# Altium footprint library 下板20130801.PcbLib: 47 footprints (part 2 of 3)
Each footprint in its own frame and in the unit in brackets; x right, y up, seen from the top. Pads: shape width x height; smd on the part's side, far side on the other; paste and mask are expansions set on the pad; w line width, h text height; cw(c..) or ccw(c..) is an arc to the next point about the centre after c.
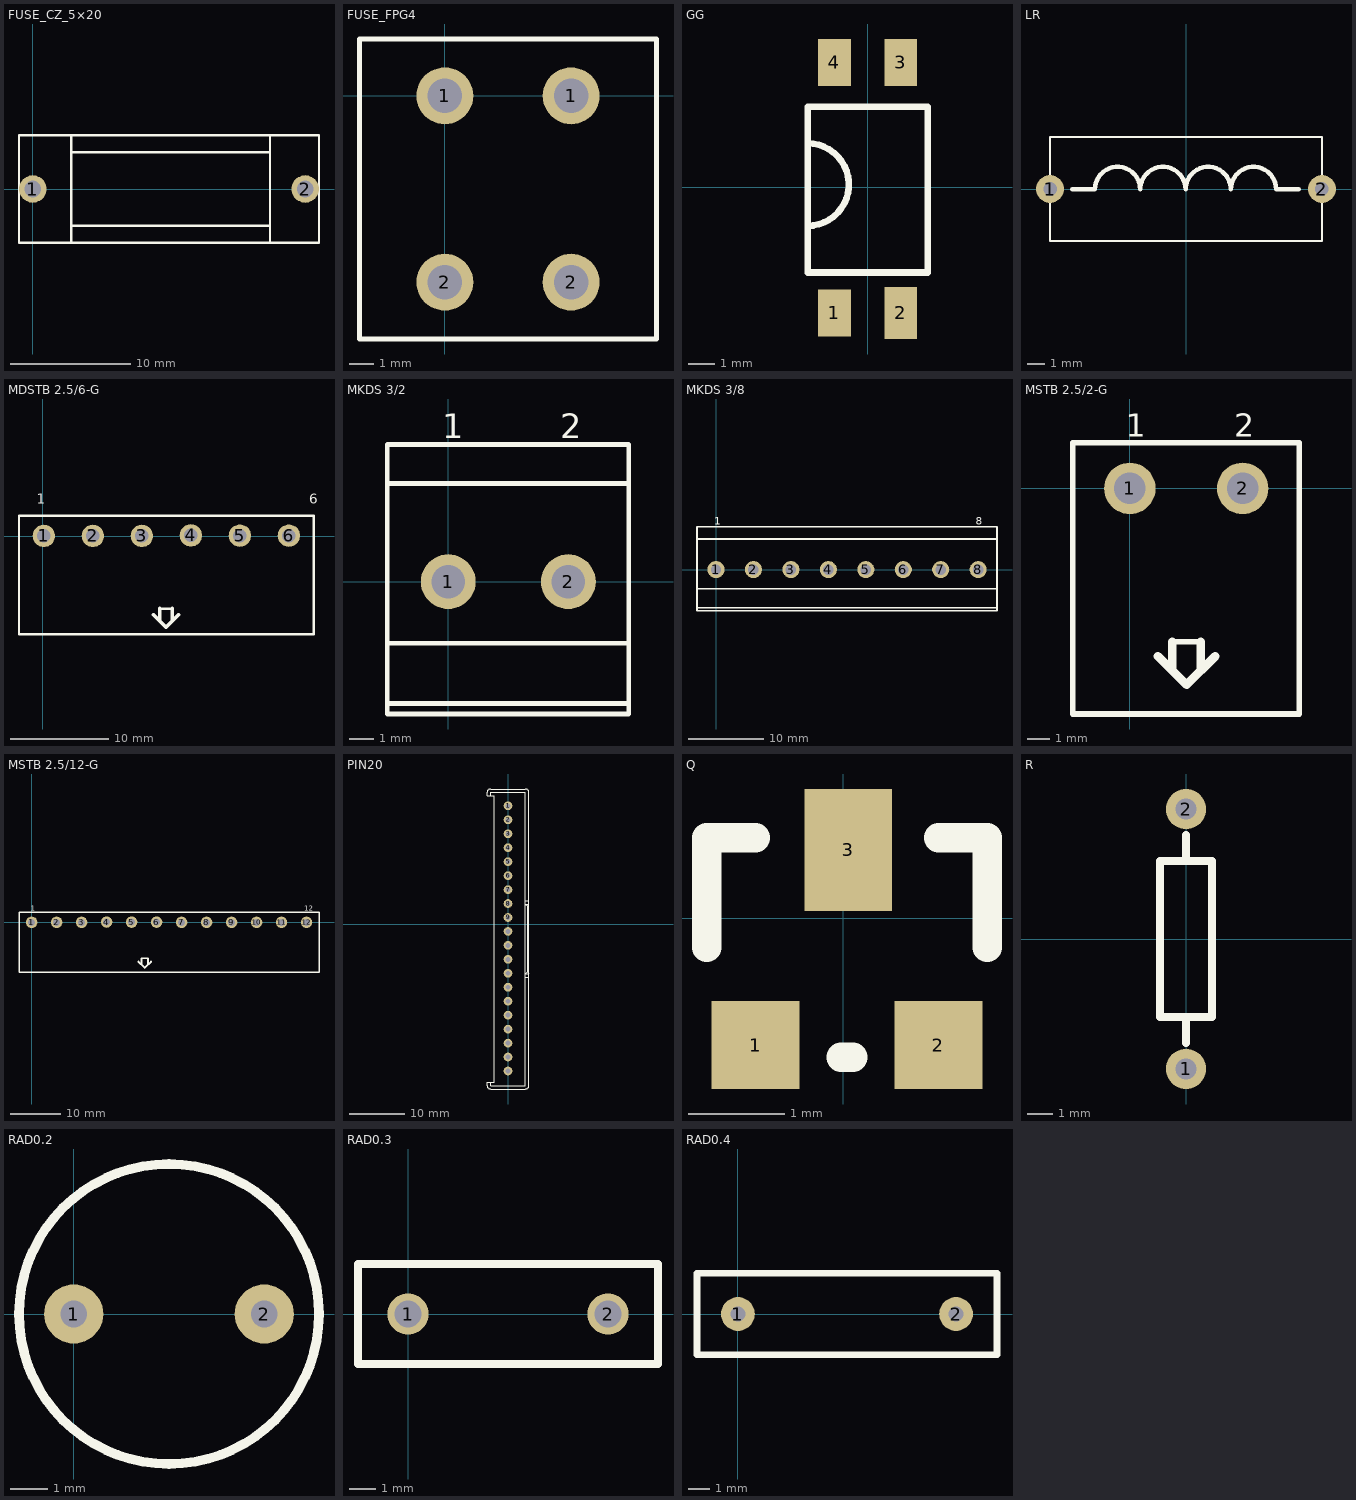
[diagram p1: the footprints below, top view; thin cyan lines are the x and y axes]

## FUSE_CZ_5×20 [mil]
pads (2):
  round 90 hole 55: 1(0,0) 2(890,0)
Top Overlay:
  lines w8: 125,-175 125,175 ; 125,-120 775,-120 ; 125,120 775,120 ; 775,-175 775,175 ; -45,-175 -45,175 935,175 935,-175 -45,-175

## FUSE_FPG4 [mil]
pads (4):
  round 90 hole 55: 1(0,0) 1(200,0) 2(0,-295) 2(200,-295)
Top Overlay:
  lines w8: -135,-385 -135,90 335,90 335,-385 -135,-385

## GG [mm]
pads (4):
  rect 1.25x1.8 smd: 1(-1.27,-4.826) 3(1.27,4.774) 4(-1.27,4.774)
  rect 1.25x2 smd: 2(1.27,-4.826)
Top Overlay:
  lines w0.254: -2.3,-1.488 ccw(c-2.3,0.093) -2.3,1.674 ; -2.3,-3.276 2.3,-3.276 2.3,3.074 -2.3,3.074 -2.3,-3.276

## LR [mil]
height 6
pads (2):
  round 62 hole 30: 1(-300,0) 2(300,0)
Top Overlay:
  lines w3.94: -300,-115 300,-115 300,115 -300,115 -300,-115
  lines w10: -251,-1 -201,-1 cw(c-151,-1) -101,-1 cw(c-51,-1) -1,-1 ; 249,-1 199,-1 ccw(c149,-1) 99,-1 ; -1,-1 cw(c49,-1) 99,-1 ; -1,-1 cw(c49,-1) 99,-1

## MDSTB 2.5/6-G [mil]
pads (6):
  round 90 hole 55: 1(4,1) 2(201,1) 3(398,1) 4(595,3) 5(792,2) 6(989,2)
Top Overlay:
  lines w10: 470,-291 520,-291 ; -96,-394 1088,-394 1088,81 -96,81 -96,-394
  lines w15: 445,-316 495,-366 545,-316 ; 470,-341 470,-291 ; 520,-341 520,-291
  text "6" at 1070,130 h40
  text "1" at -25,130 h40

## MKDS 3/2 [mil]
pads (2):
  round 90 hole 55: 1(0,0) 2(197,0)
Top Overlay:
  lines w8: -100,-200 296,-200 ; -100,-101 296,-101 ; -100,161 296,161 ; -100,-217 -100,0 -100,225 296,225 296,-217 -100,-217
  text "2" at 184,235 h40
  text "1" at -10,235 h40

## MKDS 3/8 [mil]
pads (8):
  round 90 hole 55: 1(0,0) 2(197,0) 3(394,0) 4(591,0) 5(788,0) 6(985,0) 7(1182,0) 8(1379,0)
Top Overlay:
  lines w8: -100,-200 1478,-200 ; -100,-101 1478,-101 ; -100,161 1478,161 ; -100,-217 1478,-217 1478,225 -100,225 -100,0 -100,-217
  text "1" at -10,235 h40
  text "8" at 1366,236 h40

## MSTB 2.5/2-G [mil]
pads (2):
  round 90 hole 55: 1(0,0) 2(197,0)
Top Overlay:
  lines w10: 74,-268 124,-268 ; -100,-394 -100,80 296,80 296,-394 -100,-394
  lines w15: 49,-293 99,-343 149,-293 ; 74,-318 74,-268 ; 124,-318 124,-268
  text "1" at -7,90 h40
  text "2" at 182,90 h40

## MSTB 2.5/12-G [mil]
pads (12):
  round 90 hole 55: 1(0,0) 2(197,0) 3(394,0) 4(591,2) 5(788,1) 6(985,1) 7(1182,0) 8(1379,0) 9(1576,0) 10(1773,0) 11(1970,0) 12(2167,0)
Top Overlay:
  lines w10: 866,-284 916,-284 ; -100,-395 2265,-395 2265,80 -100,80 -100,-395
  lines w15: 841,-309 891,-359 941,-309 ; 866,-334 866,-284 ; 916,-334 916,-284
  text "12" at 2147,92 h40
  text "1" at -7,90 h40

## PCBComponent_1 [mil]

## PIN20 [mil]
height 39.37
pads (20):
  round 62 hole 35: 1(0,850) 2(0,750) 3(0,650) 4(0,550) 5(0,450) 6(0,350) 7(0,250) 8(0,150) 9(0,50) 10(0,-50) 11(0,-150) 12(0,-250) 13(0,-350) 14(0,-450) 15(0,-550) 16(0,-650) 17(0,-750) 18(0,-850) 19(0,-950) 20(0,-1050)
Top Overlay:
  lines w7.87: -125,-1129.17 -125,-1154.17 125,-1154.17 125,937.5 125,945.83 -125,945.83 -125,920.83 ; 125,-379.17 150,-379.17 ; 125,170.83 150,170.83 ; 141.67,-337.5 125,-354.17 150,-354.17 141.67,-337.5 ; 141.67,-337.5 141.67,129.17 ; 141.67,129.17 125,145.83 150,145.83 141.67,129.17 ; -150,-1154.17 ccw(c-125,-1154.17) -125,-1179.17 125,-1179.17 ccw(c125,-1154.17) 150,-1154.17 150,945.83 ccw(c125,945.83) 125,970.83 -125,970.83 ccw(c-125,945.83) -150,945.83 -150,920.83 -100,920.83 -100,-1129.17 -150,-1129.17 -150,-1154.17

## Q [mil]
pads (3):
  rect 36x36 smd: 1(-36,-52) 2(39,-52)
  rect 36x50 smd: 3(2,28)
Top Overlay:
  lines w12: -56,-12 -56,33 -36,33 ; -1,-57 4,-57 ; 39,33 59,33 59,-12

## R [mil]
height 19.68
pads (2):
  round 62 hole 32: 1(0,-200) 2(0,200)
Top Overlay:
  lines w12: 0,-160 0,-120 ; 0,120 0,160 ; -40,-120 40,-120 40,120 -40,120 -40,-120

## RAD0.2 [mil]
pads (2):
  round 62 hole 28: 1(0,0) 2(200,0)
Top Overlay:
  circle w10: c100,0 r157.48

## RAD0.3 [mil]
pads (2):
  round 62 hole 40: 1(0,0) 2(300,0)
Top Overlay:
  lines w12: -75,-75 375,-75 375,75 -75,75 -75,-75

## RAD0.4 [mil]
pads (2):
  round 62 hole 28: 1(0,0) 2(400,0)
Top Overlay:
  lines w12: -75,-75 -75,75 475,75 475,-75 -75,-75